# EAGLE library part NCP4303A (library on-semi)
Secondary Side Synchronous Rectification Driver
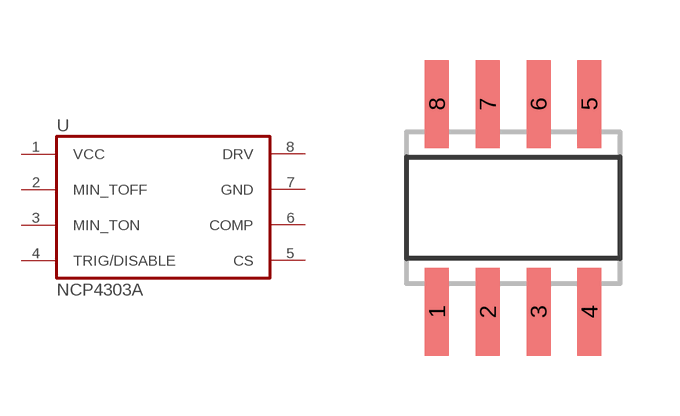
[diagram p3: symbol with the pads of SO08; footprint SO08]

Designator prefix U

## NCP4303AD (DIGIKEY: NCP4303ADR2GOSCT-ND; P1I: o)  [SO08]
1  VCC  pas
2  MIN_TOFF  in
3  MIN_TON  in
4  TRIG/DISABLE  in
5  CS  in
6  COMP  in
7  GND  pas
8  DRV  out

## Footprint SO08 (pad centres in mm)
SMALL OUTLINE INTEGRATED CIRCUIT body 3.9 mm/JEDEC MS-012AA
smd 0.6 x 2.2: 1 -1.905,-2.6; 2 -0.635,-2.6; 3 0.635,-2.6; 4 1.905,-2.6; 5 1.905,2.6; 6 0.635,2.6; 7 -0.635,2.6; 8 -1.905,2.6